# Altium integrated library 1N4007W-T.IntLib: 1 symbol
Pins are listed as number, name and electrical type; pins without a type are passive.

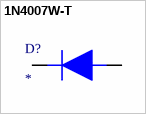
[diagram p0: symbol 1N4007W-T]

## 1N4007W-T
designator D?
STANDARD SOD123FL T/R 3000; MF: EIC; MP: 1N4007W; SnapEDA_Link: https://www.snapeda.com/parts/1N4007W/Schleicher/view-part/?ref=snap; Package: DO-214AA-214 EIC; Value: *; Check_prices: https://www.snapeda.com/parts/1N4007W/Schleicher/view-part/?ref=eda
footprint SODFL3818X130N
pins: 1 K (io), 2 A (io)